# EAGLE library part MM74HC595N (library Fairchild_By_element14_Batch_1)
8-BIT SHIFT REGISTER
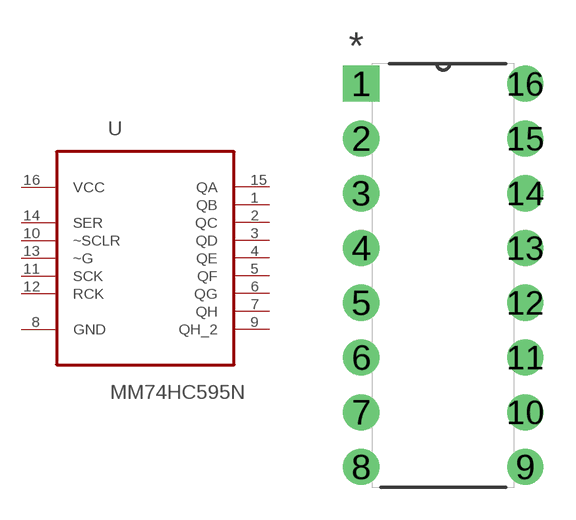
[diagram p303: symbol with the pads of DIP254P762X533-16; footprint DIP254P762X533-16]

Designator prefix U

## MM74HC595N (MPN: MM74HC595N; OC_FARNELL: 1013845; OC_NEWARK: 35C0539; PACKAGE: PDIP-16; SUPPLIER: Fairchild)  [DIP254P762X533-16]
1  QB  out
2  QC  out
3  QD  out
4  QE  out
5  QF  out
6  QG  out
7  QH  out
8  GND  pas
9  QH_2  out
10  ~SCLR  in
11  SCK  in
12  RCK  in
13  ~G  in
14  SER  in
15  QA  out
16  VCC  pwr

## Footprint DIP254P762X533-16 (pad centres in mm)
drill 1.118 square: 1 -7.62,17.78
drill 1.118: 2 -7.62,15.24; 3 -7.62,12.7; 4 -7.62,10.16; 5 -7.62,7.62; 6 -7.62,5.08; 7 -7.62,2.54; 8 -7.62,0; 9 0,0; 10 0,2.54; 11 0,5.08; 12 0,7.62; 13 0,10.16; 14 0,12.7; 15 0,15.24; 16 0,17.78